# EAGLE library part DSPIC33FJ32GP204-I/ML (library Microchip_By_element14_Batch_1)
16-bit Digital Signal Controllers
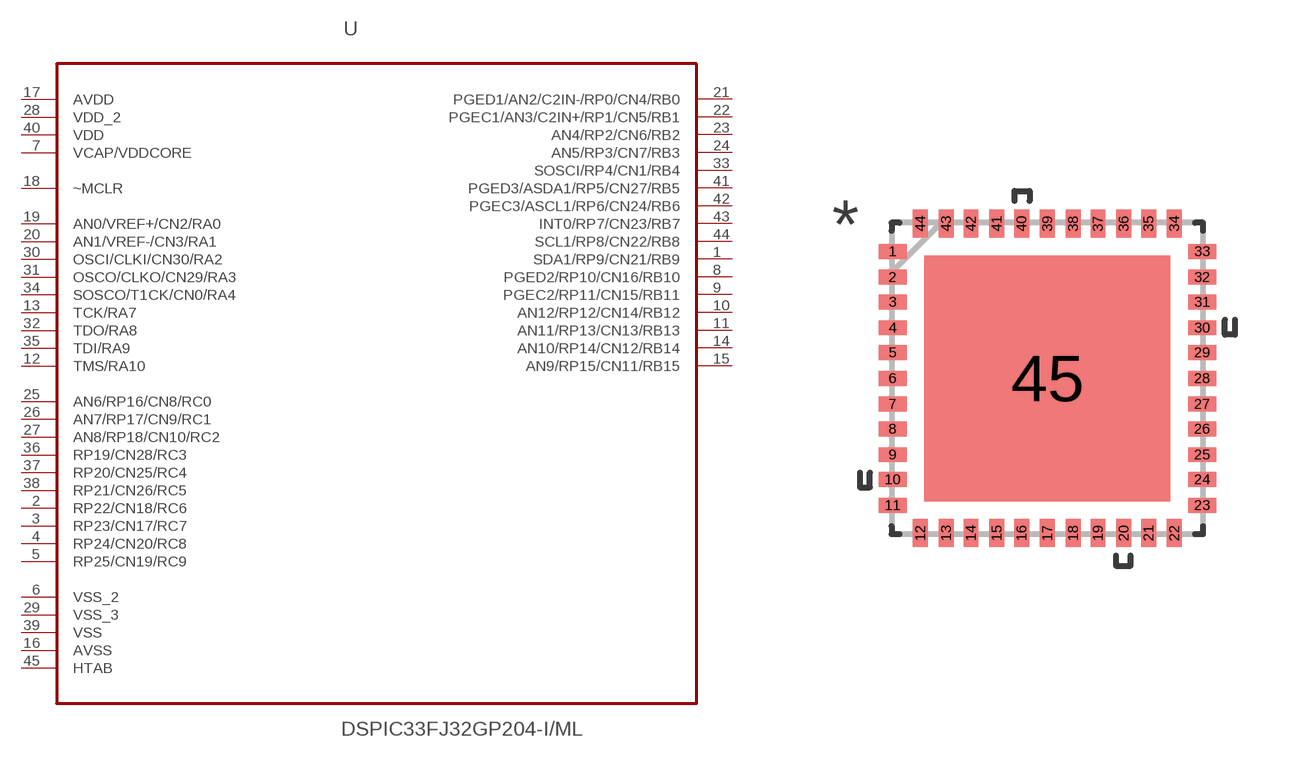
[diagram p398: symbol with the pads of QFN65P800X800X100-45N; footprint QFN65P800X800X100-45N]

Designator prefix -

## DSPIC33FJ32GP204-I/ML (MPN: DSPIC33FJ32GP204-I/ML; OC_FARNELL: 1576915; OC_NEWARK: 39M8171; PACKAGE: QFN-44; SUPPLIER: Microchip)  [QFN65P800X800X100-45N]
1  SDA1/RP9/CN21/RB9
2  RP22/CN18/RC6
3  RP23/CN17/RC7
4  RP24/CN20/RC8
5  RP25/CN19/RC9
6  VSS_2  pwr
7  VCAP/VDDCORE  pwr
8  PGED2/RP10/CN16/RB10
9  PGEC2/RP11/CN15/RB11
10  AN12/RP12/CN14/RB12
11  AN11/RP13/CN13/RB13
12  TMS/RA10
13  TCK/RA7
14  AN10/RP14/CN12/RB14
15  AN9/RP15/CN11/RB15
16  AVSS  pwr
17  AVDD  pwr
18  ~MCLR  in
19  AN0/VREF+/CN2/RA0
20  AN1/VREF-/CN3/RA1
21  PGED1/AN2/C2IN-/RP0/CN4/RB0
22  PGEC1/AN3/C2IN+/RP1/CN5/RB1
23  AN4/RP2/CN6/RB2
24  AN5/RP3/CN7/RB3
25  AN6/RP16/CN8/RC0
26  AN7/RP17/CN9/RC1
27  AN8/RP18/CN10/RC2
28  VDD_2  pwr
29  VSS_3  pwr
30  OSCI/CLKI/CN30/RA2
31  OSCO/CLKO/CN29/RA3
32  TDO/RA8
33  SOSCI/RP4/CN1/RB4
34  SOSCO/T1CK/CN0/RA4
35  TDI/RA9
36  RP19/CN28/RC3
37  RP20/CN25/RC4
38  RP21/CN26/RC5
39  VSS  pwr
40  VDD  pwr
41  PGED3/ASDA1/RP5/CN27/RB5
42  PGEC3/ASCL1/RP6/CN24/RB6
43  INT0/RP7/CN23/RB7
44  SCL1/RP8/CN22/RB8
45  HTAB  pas

## Footprint QFN65P800X800X100-45N (pad centres in mm)
smd 0.711 x 0.381: 1 -3.962,3.251; 2 -3.962,2.591; 3 -3.962,1.956; 4 -3.962,1.295; 5 -3.962,0.66; 6 -3.962,0; 7 -3.962,-0.66; 8 -3.962,-1.295; 9 -3.962,-1.956; 10 -3.962,-2.591; 11 -3.962,-3.251; 23 3.962,-3.251; 24 3.962,-2.591; 25 3.962,-1.956; 26 3.962,-1.295; 27 3.962,-0.66; 28 3.962,0; 29 3.962,0.66; 30 3.962,1.295; 31 3.962,1.956; 32 3.962,2.591; 33 3.962,3.251
smd 0.381 x 0.711: 12 -3.251,-3.962; 13 -2.591,-3.962; 14 -1.956,-3.962; 15 -1.295,-3.962; 16 -0.66,-3.962; 17 0,-3.962; 18 0.66,-3.962; 19 1.295,-3.962; 20 1.956,-3.962; 21 2.591,-3.962; 22 3.251,-3.962; 34 3.251,3.962; 35 2.591,3.962; 36 1.956,3.962; 37 1.295,3.962; 38 0.66,3.962; 39 0,3.962; 40 -0.66,3.962; 41 -1.295,3.962; 42 -1.956,3.962; 43 -2.591,3.962; 44 -3.251,3.962
smd 6.299 x 6.299: 45 0,0